# EAGLE library part ARDUINO101 (library Coert Vonk maybe old)
Schematic symbol for representing an Arduino/Genuino 101 board in an EAGLE schematic. Created by Dave Young for Element14. More 101 documentation at: https://www.element14.com/community/docs/DOC-80459/l/intel-genuino-101-development-board More EAGLE documentation at: http://www.element14.com/community/community/knode/cadsoft_eagle
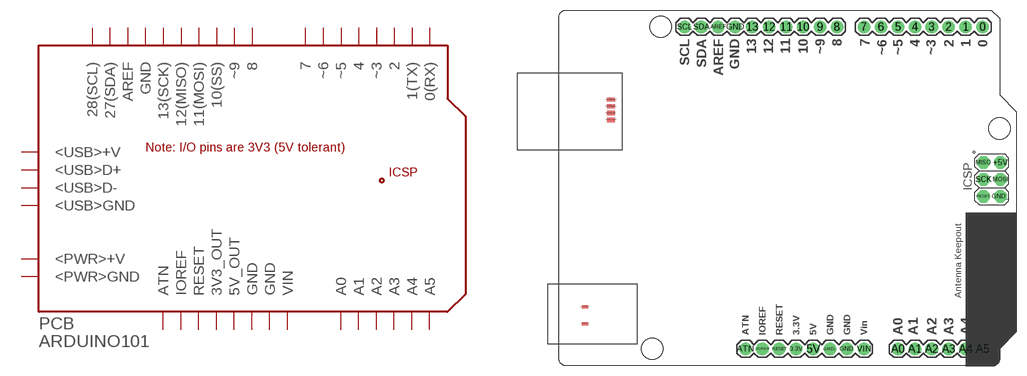
[diagram p4: symbol with the pads of ARDUINO101; footprint ARDUINO101]

Designator prefix PCB

## ARDUINO101  [ARDUINO101]
0  0(RX)
1  1(TX)
2  2
3  ~3
3.3V  3V3_OUT  pwr
4  4
5  ~5
5V  5V_OUT  pwr
6  ~6
7  7
8  8
9  ~9
10  10(SS)
11  11(MOSI)
12  12(MISO)
13  13(SCK)
+5V  +5V
<PWR>+V  <PWR>+V
<PWR>-V  <PWR>GND
<USB>+V  <USB>+V  pwr
<USB>D+  <USB>D+
<USB>D-  <USB>D-
<USB>GND  <USB>GND  pwr
A0  A0
A1  A1
A2  A2
A3  A3
A4  A4
A5  A5
AREF  AREF
ATN  ATN
GND  GND  pwr
GND.  GND  pwr
GND..  GND  pwr
GND_  GND_
I/OREF  IOREF
MISO  MISO
MOSI  MOSI
RESET  RESET
RESET.  RESET.
SCK  SCK
SCL  28(SCL)
SDA  27(SDA)
VIN  VIN

## Footprint ARDUINO101 (pad centres in mm)
Package for representing an Arduino/Genuino 101 board in an EAGLE PCB design. Created by Dave Young for Element14. More 101 documentation at: https://www.element14.com/community/docs/DOC-80459/l/intel-genuino-101-development-board More EAGLE documentation at: http://www.element14.com/community/community/knode/cadsoft_eagle
drill 1.016 pad 1.88: 0 27.94,25.4; 1 25.4,25.4; 2 22.86,25.4; 3 20.32,25.4; 3.3V 0,-22.86; 4 17.78,25.4; 5 15.24,25.4; 5V 2.54,-22.86; 6 12.7,25.4; 7 10.16,25.4; 8 6.096,25.4; 9 3.556,25.4; 10 1.016,25.4; 11 -1.524,25.4; 12 -4.064,25.4; 13 -6.604,25.4; A0 15.24,-22.86; A1 17.78,-22.86; A2 20.32,-22.86; A3 22.86,-22.86; A4 25.4,-22.86; A5 27.94,-22.86; AREF -11.684,25.4; ATN -7.62,-22.86; GND -9.144,25.4; GND. 7.62,-22.86; GND.. 5.08,-22.86; I/OREF -5.08,-22.86; RESET -2.54,-22.86; SCL -16.764,25.4; SDA -14.224,25.4; VIN 10.16,-22.86
drill 1.016 pad 1.88 octagon: +5V 30.607,5.08; GND_ 30.607,0; MISO 28.067,5.08; MOSI 30.607,2.54; RESET. 28.067,0; SCK 28.067,2.54
smd 1.016 x 0.508: <PWR>+V -31.699,-16.586; <PWR>-V -31.699,-19.126
smd 1.27 x 0.635: <USB>+V -27.788,14.478; <USB>D+ -27.788,13.487; <USB>D- -27.788,12.471; <USB>GND -27.788,11.43
hole 3.2 at 30.48,-17.78
hole 3.2 at 30.48,10.16
hole 3.2 at -20.32,25.4
hole 3.2 at -21.59,-22.86